# Altium schematic symbol library Header 11.Schlib: 1 symbol
Pins are listed as number, name and electrical type; pins without a type are passive.

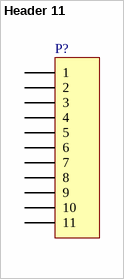
[diagram p0: symbol Header 11]

## Header 11
designator P?
Header, 11-Pin
pins: 1, 2, 3, 4, 5, 6, 7, 8, 9, 10, 11